# Altium integrated library RES.IntLib: 1 symbol
Pins are listed as number, name and electrical type; pins without a type are passive.

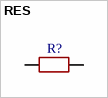
[diagram p0: symbol RES]

## RES
designator R?
footprint RES025W
footprint RES1W
pins: 1, 2